# EAGLE library part DG3XX-06 (library degson)
DG350-3.5-06P DG306-5.0-06P
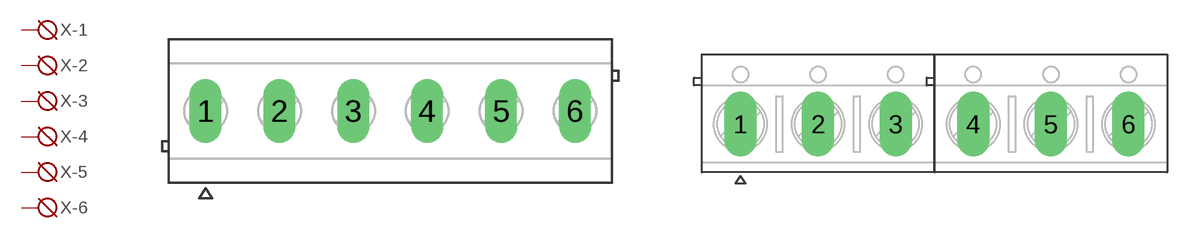
[diagram p0: symbol with the pads of DG350-3.5-06P; footprints DG350-3.5-06P, DG306-5.0-06P]

Designator prefix X; gates -1=KL -2=KL -3=KL -4=KL -5=KL -6=KL

## DG3XX-06-3.5  [DG350-3.5-06P]
1  -1:KL  pas
2  -2:KL  pas
3  -3:KL  pas
4  -4:KL  pas
5  -5:KL  pas
6  -6:KL  pas

## DG3XX-06-5.0  [DG306-5.0-06P]
Pads as for DG350-3.5-06P

## Footprint DG350-3.5-06P (pad centres in mm)
drill 1 long: 1 -8.75,0; 2 -5.25,0; 3 -1.75,0; 4 1.75,0; 5 5.25,0; 6 8.75,0

## Footprint DG306-5.0-06P (pad centres in mm)
drill 1.4 long: 1 -12.5,0; 2 -7.5,0; 3 -2.5,0; 4 2.5,0; 5 7.5,0; 6 12.5,0